# Altium footprint library 687 1xx 149 022.PcbLib: 22 footprints (part 2 of 2)
Each footprint in its own frame and in the unit in brackets; x right, y up, seen from the top. Pads: shape width x height; smd on the part's side, far side on the other; paste and mask are expansions set on the pad; w line width, h text height; cw(c..) or ccw(c..) is an arc to the next point about the centre after c.
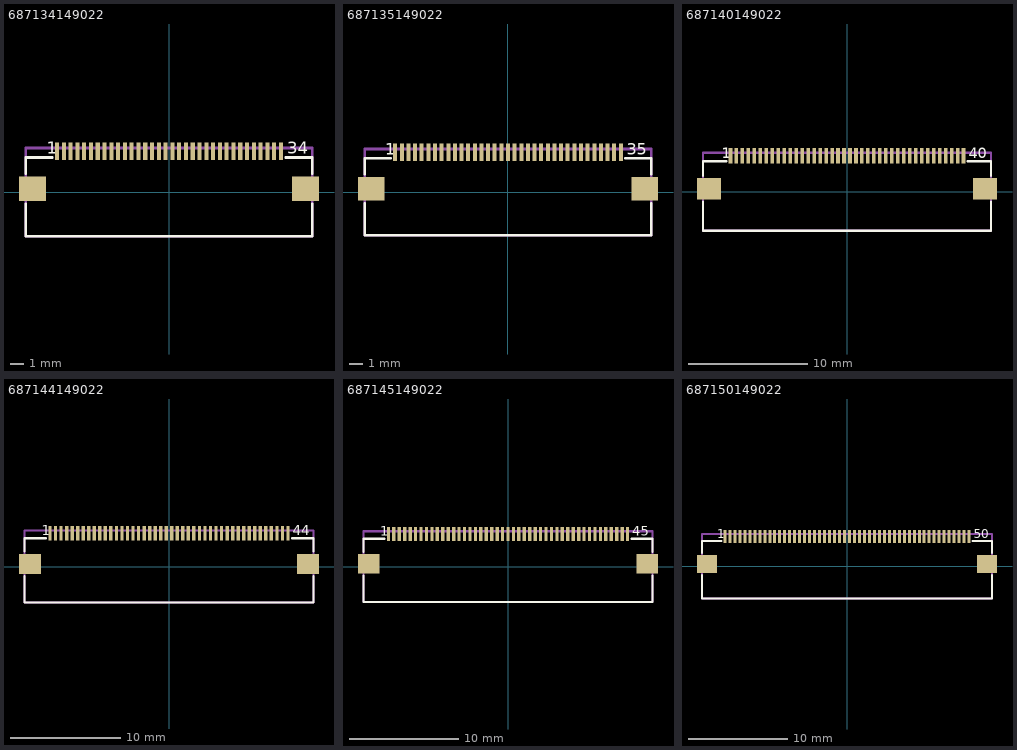
[diagram p1: the footprints below, top view; thin cyan lines are the x and y axes]

## 687134149022 [mm] "0.50 mm SMT ZIF Horizontal - Bottom Contact, 34p"
height 2.2
pads (36):
  rect 0.3x1.3 smd: 1(-8.25,3) 2(-7.75,3) 3(-7.25,3) 4(-6.75,3) 5(-6.25,3) 6(-5.75,3) 7(-5.25,3) 8(-4.75,3) 9(-4.25,3) 10(-3.75,3) 11(-3.25,3) 12(-2.75,3) 13(-2.25,3) 14(-1.75,3) 15(-1.25,3) 16(-0.75,3) 17(-0.25,3) 18(0.25,3) 19(0.75,3) 20(1.25,3) 21(1.75,3) 22(2.25,3) 23(2.75,3) 24(3.25,3) 25(3.75,3) 26(4.25,3) 27(4.75,3) 28(5.25,3) 29(5.75,3) 30(6.25,3) 31(6.75,3) 32(7.25,3) 33(7.75,3) 34(8.25,3)
  rect 2x1.8 smd: ""(-10.05,0.25) ""(10.05,0.25)
Top Overlay:
  lines w0.2: -10.55,-0.85 -10.55,-3.25 10.55,-3.25 10.55,-0.85 ; -10.55,1.35 -10.55,2.55 -8.603,2.55 ; 8.603,2.55 10.55,2.55 10.55,1.35
  text "1" at -9,2.825 h0.89
  text "34" at 8.7,2.825 h0.89
Mechanical 13:
  lines w0.2: -10.55,-3.25 -10.55,3.25 10.55,3.25 10.55,-3.25 -10.55,-3.25
3D body "687134149022.stp": height 2.25, standoff 0, extent -10.55,-3.25 10.55,3.25

## 687135149022 [mm] "0.50 mm SMT ZIF Horizontal - Bottom Contact, 35p"
height 2.2
pads (37):
  rect 0.3x1.3 smd: 1(-8.5,3) 2(-8,3) 3(-7.5,3) 4(-7,3) 5(-6.5,3) 6(-6,3) 7(-5.5,3) 8(-5,3) 9(-4.5,3) 10(-4,3) 11(-3.5,3) 12(-3,3) 13(-2.5,3) 14(-2,3) 15(-1.5,3) 16(-1,3) 17(-0.5,3) 18(0,3) 19(0.5,3) 20(1,3) 21(1.5,3) 22(2,3) 23(2.5,3) 24(3,3) 25(3.5,3) 26(4,3) 27(4.5,3) 28(5,3) 29(5.5,3) 30(6,3) 31(6.5,3) 32(7,3) 33(7.5,3) 34(8,3) 35(8.5,3)
  rect 2x1.8 smd: ""(-10.3,0.25) ""(10.3,0.25)
Top Overlay:
  lines w0.2: -10.8,-0.85 -10.8,-3.25 10.8,-3.25 10.8,-0.85 ; -10.8,1.35 -10.8,2.55 -8.853,2.55 ; 8.853,2.55 10.8,2.55 10.8,1.35
  text "1" at -9.25,2.825 h0.89
  text "35" at 8.95,2.825 h0.89
Mechanical 13:
  lines w0.2: -10.8,-3.25 -10.8,3.25 10.8,3.25 10.8,-3.25 -10.8,-3.25
3D body "687135149022.stp": height 2.25, standoff 0, extent -10.8,-3.25 10.8,3.25

## 687140149022 [mm] "0.50 mm SMT ZIF Horizontal - Bottom Contact, 40p"
height 2.2
pads (42):
  rect 0.3x1.3 smd: 1(-9.75,3) 2(-9.25,3) 3(-8.75,3) 4(-8.25,3) 5(-7.75,3) 6(-7.25,3) 7(-6.75,3) 8(-6.25,3) 9(-5.75,3) 10(-5.25,3) 11(-4.75,3) 12(-4.25,3) 13(-3.75,3) 14(-3.25,3) 15(-2.75,3) 16(-2.25,3) 17(-1.75,3) 18(-1.25,3) 19(-0.75,3) 20(-0.25,3) 21(0.25,3) 22(0.75,3) 23(1.25,3) 24(1.75,3) 25(2.25,3) 26(2.75,3) 27(3.25,3) 28(3.75,3) 29(4.25,3) 30(4.75,3) 31(5.25,3) 32(5.75,3) 33(6.25,3) 34(6.75,3) 35(7.25,3) 36(7.75,3) 37(8.25,3) 38(8.75,3) 39(9.25,3) 40(9.75,3)
  rect 2x1.8 smd: ""(-11.55,0.25) ""(11.55,0.25)
Top Overlay:
  lines w0.2: -12.05,-0.85 -12.05,-3.25 12.05,-3.25 12.05,-0.85 ; -12.05,1.35 -12.05,2.55 -10.103,2.55 ; 10.103,2.55 12.05,2.55 12.05,1.35
  text "40" at 10.2,2.825 h0.89
  text "1" at -10.5,2.825 h0.89
Mechanical 13:
  lines w0.2: -12.05,-3.25 12.05,-3.25 12.05,3.25 -12.05,3.25 -12.05,-3.25
3D body "687140149022.stp": height 2.25, standoff 0, extent -12.05,-3.25 12.05,3.25

## 687144149022 [mm] "0.50 mm SMT ZIF Horizontal - Bottom Contact, 44p"
height 2.2
pads (46):
  rect 0.3x1.3 smd: 1(-10.75,3) 2(-10.25,3) 3(-9.75,3) 4(-9.25,3) 5(-8.75,3) 6(-8.25,3) 7(-7.75,3) 8(-7.25,3) 9(-6.75,3) 10(-6.25,3) 11(-5.75,3) 12(-5.25,3) 13(-4.75,3) 14(-4.25,3) 15(-3.75,3) 16(-3.25,3) 17(-2.75,3) 18(-2.25,3) 19(-1.75,3) 20(-1.25,3) 21(-0.75,3) 22(-0.25,3) 23(0.25,3) 24(0.75,3) 25(1.25,3) 26(1.75,3) 27(2.25,3) 28(2.75,3) 29(3.25,3) 30(3.75,3) 31(4.25,3) 32(4.75,3) 33(5.25,3) 34(5.75,3) 35(6.25,3) 36(6.75,3) 37(7.25,3) 38(7.75,3) 39(8.25,3) 40(8.75,3) 41(9.25,3) 42(9.75,3) 43(10.25,3) 44(10.75,3)
  rect 2x1.8 smd: ""(-12.55,0.25) ""(12.55,0.25)
Top Overlay:
  lines w0.2: -13.05,-0.85 -13.05,-3.25 13.05,-3.25 13.05,-0.85 ; -13.05,1.35 -13.05,2.55 -11.103,2.55 ; 11.103,2.55 13.05,2.55 13.05,1.35
  text "44" at 11.2,2.825 h0.89
  text "1" at -11.5,2.825 h0.89
Mechanical 13:
  lines w0.2: -13.05,-3.25 13.05,-3.25 13.05,3.25 -13.05,3.25 -13.05,-3.25
3D body "687144149022.stp": height 2.25, standoff 0, extent -13.05,-3.25 13.05,3.25

## 687145149022 [mm] "0.50 mm SMT ZIF Horizontal - Bottom Contact, 45p"
height 2.2
pads (47):
  rect 0.3x1.3 smd: 1(-11,3) 2(-10.5,3) 3(-10,3) 4(-9.5,3) 5(-9,3) 6(-8.5,3) 7(-8,3) 8(-7.5,3) 9(-7,3) 10(-6.5,3) 11(-6,3) 12(-5.5,3) 13(-5,3) 14(-4.5,3) 15(-4,3) 16(-3.5,3) 17(-3,3) 18(-2.5,3) 19(-2,3) 20(-1.5,3) 21(-1,3) 22(-0.5,3) 23(0,3) 24(0.5,3) 25(1,3) 26(1.5,3) 27(2,3) 28(2.5,3) 29(3,3) 30(3.5,3) 31(4,3) 32(4.5,3) 33(5,3) 34(5.5,3) 35(6,3) 36(6.5,3) 37(7,3) 38(7.5,3) 39(8,3) 40(8.5,3) 41(9,3) 42(9.5,3) 43(10,3) 44(10.5,3) 45(11,3)
  rect 2x1.8 smd: ""(-12.8,0.25) ""(12.8,0.25)
Top Overlay:
  lines w0.2: -13.3,-0.85 -13.3,-3.25 13.3,-3.25 13.3,-0.85 ; -13.3,1.35 -13.3,2.55 -11.353,2.55 ; 11.353,2.55 13.3,2.55 13.3,1.35
  text "1" at -11.75,2.825 h0.89
  text "45" at 11.45,2.825 h0.89
Mechanical 13:
  lines w0.2: -13.3,-3.25 -13.3,3.25 13.3,3.25 13.3,-3.25 -13.3,-3.25
3D body "687145149022.stp": height 2.25, standoff 0, extent -13.3,-3.25 13.3,3.25

## 687150149022 [mm] "0.50 mm SMT ZIF Horizontal - Bottom Contact, 50p"
height 2.2
pads (52):
  rect 0.3x1.3 smd: 1(-12.25,3) 2(-11.75,3) 3(-11.25,3) 4(-10.75,3) 5(-10.25,3) 6(-9.75,3) 7(-9.25,3) 8(-8.75,3) 9(-8.25,3) 10(-7.75,3) 11(-7.25,3) 12(-6.75,3) 13(-6.25,3) 14(-5.75,3) 15(-5.25,3) 16(-4.75,3) 17(-4.25,3) 18(-3.75,3) 19(-3.25,3) 20(-2.75,3) 21(-2.25,3) 22(-1.75,3) 23(-1.25,3) 24(-0.75,3) 25(-0.25,3) 26(0.25,3) 27(0.75,3) 28(1.25,3) 29(1.75,3) 30(2.25,3) 31(2.75,3) 32(3.25,3) 33(3.75,3) 34(4.25,3) 35(4.75,3) 36(5.25,3) 37(5.75,3) 38(6.25,3) 39(6.75,3) 40(7.25,3) 41(7.75,3) 42(8.25,3) 43(8.75,3) 44(9.25,3) 45(9.75,3) 46(10.25,3) 47(10.75,3) 48(11.25,3) 49(11.75,3) 50(12.25,3)
  rect 2x1.8 smd: ""(-14.05,0.25) ""(14.05,0.25)
Top Overlay:
  lines w0.2: -14.55,-0.85 -14.55,-3.25 14.55,-3.25 14.55,-0.85 ; -14.55,1.35 -14.55,2.55 -12.603,2.55 ; 12.603,2.55 14.55,2.55 14.55,1.35
  text "50" at 12.7,2.825 h0.89
  text "1" at -13,2.825 h0.89
Mechanical 13:
  lines w0.2: -14.55,-3.25 14.55,-3.25 14.55,3.25 -14.55,3.25 -14.55,-3.25
3D body "687150149022.stp": height 2.25, standoff 0, extent -14.55,-3.25 14.55,3.25